# Altium footprint library vitech_ic.PcbLib: 8 footprints
Each footprint in its own frame and in the unit in brackets; x right, y up, seen from the top. Pads: shape width x height; smd on the part's side, far side on the other; paste and mask are expansions set on the pad; w line width, h text height; cw(c..) or ccw(c..) is an arc to the next point about the centre after c.
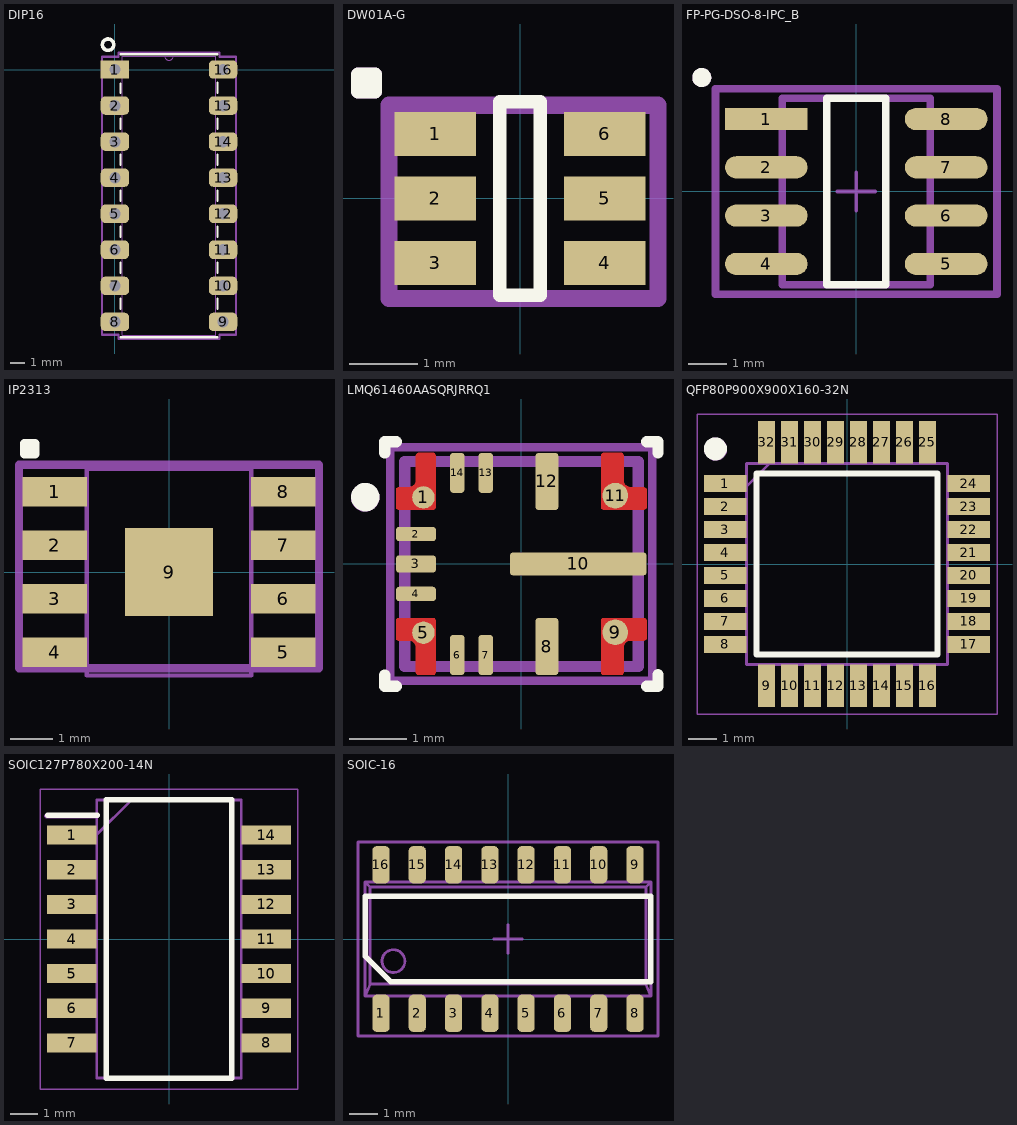
[diagram p0: the footprints below, top view; thin cyan lines are the x and y axes]

## DIP16 [mm]
pads (16):
  rect 2x1.295 / inner round 1.524 / far side rect 1.295x1.295 hole 0.787 paste-2539.97 mask+0: 1(0,0)
  rrect50% 2x1.295 / inner round 1.524 / far side round 1.295 hole 0.8 paste-2539.97 mask+0: 2(0,-2.54) 3(0,-5.08) 4(0,-7.62) 5(0,-10.16) 6(0,-12.7) 7(0,-15.24) 8(0,-17.78) 9(7.62,-17.78) 10(7.62,-15.24) 11(7.62,-12.7) 12(7.62,-10.16) 13(7.62,-7.62) 14(7.62,-5.08) 15(7.62,-2.54) 16(7.62,0)
Top Overlay:
  circle w0.254: c-0.483,1.753 r0.4
  lines w0.152: 0.381,-18.86 7.239,-18.86 ; 0.381,-16.877 0.381,-16.143 ; 0.381,-14.337 0.381,-13.603 ; 0.381,-11.797 0.381,-11.063 ; 0.381,-9.257 0.381,-8.523 ; 0.381,-6.717 0.381,-5.983 ; 0.381,-4.177 0.381,-3.443 ; 0.381,-1.637 0.381,-0.98 ; 0.381,1.079 7.239,1.079 ; 7.239,-16.877 7.239,-16.143 ; 7.239,-14.337 7.239,-13.603 ; 7.239,-11.797 7.239,-11.063 ; 7.239,-9.257 7.239,-8.523 ; 7.239,-6.717 7.239,-5.983 ; 7.239,-4.177 7.239,-3.443 ; 7.239,-1.637 7.239,-0.903
Assembly:
  lines w0.152: -0.902,-18.682 -0.902,0.902 0.254,0.902 0.254,1.206 7.366,1.206 7.366,0.902 8.522,0.902 8.522,-18.682 7.366,-18.682 7.366,-18.986 0.254,-18.986 0.254,-18.682 -0.902,-18.682
Top Assembly:
  text ".Designator" at 1.803,1.563 h0.5
Mechanical 13:
  lines w0: 3.505,0.953 ccw(c3.81,0.953) 4.115,0.953
  lines w0.025: -0.394,-18.174 0.508,-18.174 0.508,-17.386 -0.394,-17.386 -0.394,-18.174 ; -0.394,-15.634 0.508,-15.634 0.508,-14.846 -0.394,-14.846 -0.394,-15.634 ; -0.394,-13.094 0.508,-13.094 0.508,-12.306 -0.394,-12.306 -0.394,-13.094 ; -0.394,-10.554 0.508,-10.554 0.508,-9.766 -0.394,-9.766 -0.394,-10.554 ; -0.394,-8.014 0.508,-8.014 0.508,-7.226 -0.394,-7.226 -0.394,-8.014 ; -0.394,-5.474 0.508,-5.474 0.508,-4.686 -0.394,-4.686 -0.394,-5.474 ; -0.394,-2.934 0.508,-2.934 0.508,-2.146 -0.394,-2.146 -0.394,-2.934 ; -0.394,-0.394 0.508,-0.394 0.508,0.394 -0.394,0.394 -0.394,-0.394 ; 0.508,-18.732 0.508,0.953 7.112,0.953 7.112,-18.732 0.508,-18.732 ; 7.112,-18.174 8.014,-18.174 8.014,-17.386 7.112,-17.386 7.112,-18.174 ; 7.112,-15.634 8.014,-15.634 8.014,-14.846 7.112,-14.846 7.112,-15.634 ; 7.112,-13.094 8.014,-13.094 8.014,-12.306 7.112,-12.306 7.112,-13.094 ; 7.112,-10.554 8.014,-10.554 8.014,-9.766 7.112,-9.766 7.112,-10.554 ; 7.112,-8.014 8.014,-8.014 8.014,-7.226 7.112,-7.226 7.112,-8.014 ; 7.112,-5.474 8.014,-5.474 8.014,-4.686 7.112,-4.686 7.112,-5.474 ; 7.112,-2.934 8.014,-2.934 8.014,-2.146 7.112,-2.146 7.112,-2.934 ; 7.112,-0.394 8.014,-0.394 8.014,0.394 7.112,0.394 7.112,-0.394
Mechanical 19:
  text ".Comment" at 1.834,2.401 h0.5
3D body "N16_TEX.step": height 5.21, standoff -2.54, extent -0.127,-18.732 8.001,0.952

## DW01A-G [mm]
pads (6):
  rect 1.2x0.65 smd: 1(-1.25,0.95) 2(-1.25,0) 3(-1.25,-0.95) 4(1.25,-0.95) 5(1.25,0) 6(1.25,0.95)
Top Overlay:
  lines w0.2: -2.388,1.829 -2.134,1.575 ; -2.388,1.829 -2.134,1.829 -2.134,1.575 ; -2.388,1.829 -2.388,1.575 -2.134,1.575 ; -2.388,1.829 -2.134,1.575 ; -0.3,-1.425 0.3,-1.425 0.3,1.425 -0.3,1.425 -0.3,-1.425
Assembly:
  lines w0.2: -2.388,1.829 -2.134,1.575 ; -2.388,1.829 -2.134,1.829 -2.134,1.575 ; -2.388,1.829 -2.388,1.575 -2.134,1.575 ; -2.388,1.829 -2.134,1.575
  lines w0.254: -1.93,-1.473 2.032,-1.473 2.032,1.372 -1.93,1.372 -1.93,-1.473
Top Assembly:
  text ".Designator" at -1.601,2.934 h0.5
Mechanical 19:
  text ".Comment" at -1.57,3.772 h0.5
3D body "DW01A-G.stp": height 1.35, standoff 0, extent -1.4,-1.425 1.4,1.425

## FP-PG-DSO-8-IPC_B [mm]
pads (8):
  rect 2.174x0.583 smd paste+0 mask+0: 1(-2.366,1.905)
  rrect100% 2.174x0.583 smd paste+0 mask+0: 2(-2.366,0.635) 3(-2.366,-0.635) 4(-2.366,-1.905) 5(2.366,-1.905) 6(2.366,-0.635) 7(2.366,0.635) 8(2.366,1.905)
Top Overlay:
  circle w0.25: c-4.064,2.997 r0.125
  lines w0.2: -0.779,-2.45 -0.779,2.45 0.779,2.45 0.779,-2.45 -0.779,-2.45
Assembly:
  circle w0.25: c-4.064,2.997 r0.125
  lines w0.2: -3.703,-2.7 -3.703,2.7 3.703,2.7 3.703,-2.7 -3.703,-2.7 ; -1.95,-2.45 1.95,-2.45 1.95,2.45 -1.95,2.45 -1.95,-2.45
Top Assembly (Mech6):
  lines w0.2: -3.703,-2.7 -3.703,2.7 3.703,2.7 3.703,-2.7 -3.703,-2.7
Top Component Center:
  lines w0.1: -0.5,0 0.5,0 ; 0,-0.5 0,0.5
Mechanical 17:
  text ".Designator" at -1.943,3.987 h0.5
Mechanical 19:
  text ".Comment" at -1.937,3.301 h0.5
3D body "Trans_Infineon_Technologies_IRF9358PBF_eec.STEP": height 0.25, standoff 0, extent -3.703,-2.7 3.703,2.7

## IP2313 [mm] "ESOP-8L DC-DC Converters RoHS"
pads (9):
  rect 1.525x0.7 smd: 1(-2.712,1.905) 2(-2.712,0.635) 3(-2.712,-0.635) 4(-2.712,-1.905) 5(2.712,-1.905) 6(2.712,-0.635) 7(2.712,0.635) 8(2.712,1.905)
  rect 2.083x2.083 smd: 9(0,0)
Top Overlay:
  lines w0.2: -3.429,3.048 -3.175,2.794 ; -3.429,3.048 -3.175,3.048 -3.175,2.794 ; -3.429,3.048 -3.429,2.794 -3.175,2.794 ; -3.429,3.048 -3.175,2.794
Assembly:
  lines w0.2: -3.556,-2.286 3.556,-2.286 3.556,2.54 -3.556,2.54 -3.556,-2.286
Mechanical 15:
  lines w0.1: -1.95,-2.45 -1.95,2.45 1.95,2.45 1.95,-2.45 -1.95,-2.45
Mechanical 17:
  text ".Designator" at -1.366,3.338 h0.5
Mechanical 19:
  text ".Comment" at -1.366,2.688 h0.5
3D body "IP2312.stp": height 1.65, standoff 0, extent -3.127,-2.45 2.873,2.45

## LMQ61460AASQRJRRQ1 [mm]
pads (14):
  round 0.394 smd paste-1000 mask+0: 1(-1.719,1.169) 5(-1.719,-1.206)
  rrect40% 0.7x0.25 smd paste+0 mask+0: 2(-1.85,0.525) 4(-1.85,-0.525)
  rrect33% 0.7x0.3 smd paste+0 mask+0: 3(-1.85,0)
  rrect40% 0.25x0.7 smd paste+0 mask+0: 6(-1.125,-1.6) 7(-0.625,-1.6) 13(-0.625,1.6) 14(-1.125,1.6)
  rrect25% 0.4x1 smd paste+0 mask+0: 8(0.45,-1.45) 12(0.45,1.45)
  round 0.45 smd paste-1000 mask+0: 9(1.65,-1.2) 11(1.65,1.2)
  rrect25% 2.4x0.4 smd paste-1000 mask+0: 10(1,0)
Top Layer:
  region: -1.8,1.95 -1.55,1.95 -1.54,1.95 -1.522,1.942 -1.508,1.928 -1.5,1.91 -1.5,1.9 -1.5,1 -1.5,0.99 -1.508,0.972 -1.522,0.958 -1.54,0.95 -1.55,0.95 -2.15,0.95 -2.16,0.95 -2.178,0.958 -2.192,0.972 -2.2,0.99 -2.2,1 -2.2,1.3 -2.2,1.31 -2.192,1.328 -2.178,1.342 -2.16,1.35 -2.15,1.35 -1.97,1.35 -1.947,1.352 -1.903,1.37 -1.87,1.403 -1.852,1.447 -1.85,1.47 -1.85,1.9 -1.85,1.91 -1.842,1.928 -1.828,1.942 -1.81,1.95 -1.8,1.95
  region: -1.55,-1.95 -1.54,-1.95 -1.522,-1.942 -1.508,-1.928 -1.5,-1.91 -1.5,-1.9 -1.5,-1 -1.5,-0.99 -1.508,-0.972 -1.522,-0.958 -1.54,-0.95 -1.55,-0.95 -2.15,-0.95 -2.16,-0.95 -2.178,-0.958 -2.192,-0.972 -2.2,-0.99 -2.2,-1 -2.2,-1.3 -2.2,-1.31 -2.192,-1.328 -2.178,-1.342 -2.16,-1.35 -2.15,-1.35 -1.97,-1.35 -1.947,-1.352 -1.903,-1.37 -1.87,-1.403 -1.852,-1.447 -1.85,-1.47 -1.85,-1.9 -1.85,-1.91 -1.842,-1.928 -1.828,-1.942 -1.81,-1.95 -1.8,-1.95
  region: 1.45,1.95 1.75,1.95 1.76,1.95 1.778,1.942 1.792,1.928 1.8,1.91 1.8,1.9 1.8,1.47 1.802,1.447 1.82,1.403 1.853,1.37 1.897,1.352 1.92,1.35 2.15,1.35 2.16,1.35 2.178,1.342 2.192,1.328 2.2,1.31 2.2,1.3 2.2,1 2.2,0.99 2.192,0.972 2.178,0.958 2.16,0.95 2.15,0.95 1.45,0.95 1.44,0.95 1.422,0.958 1.408,0.972 1.4,0.99 1.4,1 1.4,1.9 1.4,1.91 1.408,1.928 1.422,1.942 1.44,1.95 1.45,1.95
  region: 1.45,-1.95 1.75,-1.95 1.76,-1.95 1.778,-1.942 1.792,-1.928 1.8,-1.91 1.8,-1.9 1.8,-1.47 1.802,-1.447 1.82,-1.403 1.853,-1.37 1.897,-1.352 1.92,-1.35 2.15,-1.35 2.16,-1.35 2.178,-1.342 2.192,-1.328 2.2,-1.31 2.2,-1.3 2.2,-1 2.2,-0.99 2.192,-0.972 2.178,-0.958 2.16,-0.95 2.15,-0.95 1.45,-0.95 1.44,-0.95 1.422,-0.958 1.408,-0.972 1.4,-0.99 1.4,-1 1.4,-1.9 1.4,-1.91 1.408,-1.928 1.422,-1.942 1.44,-1.95 1.45,-1.95
Top Overlay:
  circle w0.25: c-2.74,1.173 r0.125
  lines w0.2: -2.399,-1.95 -2.399,-2.15 -2.199,-2.15 ; -2.399,1.948 -2.399,2.148 -2.199,2.148 ; 2.2,-2.148 2.4,-2.148 2.4,-1.948 ; 2.199,2.149 2.399,2.149 2.399,1.949
Top Paste:
  drawing of 6 lines, arcs and shapes, not listed
Top 3D Body:
  lines w0.2: -2.05,-1.8 2.05,-1.8 2.05,1.8 -2.05,1.8 -2.05,-1.8
Assembly:
  circle w0.25: c-2.743,1.168 r0.125
  lines w0.15: -2.3,-2.05 2.3,-2.05 2.3,2.05 -2.3,2.05 -2.3,-2.05
Mechanical 17:
  text ".Designator" at -1.366,3.338 h0.5
Mechanical 19:
  text ".Comment" at -1.366,2.688 h0.5
3D body "IC_Texas_Instruments_LM61440AANRJRR_eec.STEP": height 0.25, standoff 0, extent -2.3,-2.05 2.3,2.05

## QFP80P900X900X160-32N [mm]
pads (32):
  rect 1.475x0.6 smd: 1(-4.238,2.8) 2(-4.238,2) 3(-4.238,1.2) 4(-4.238,0.4) 5(-4.238,-0.4) 6(-4.238,-1.2) 7(-4.238,-2) 8(-4.238,-2.8) 17(4.238,-2.8) 18(4.238,-2) 19(4.238,-1.2) 20(4.238,-0.4) 21(4.238,0.4) 22(4.238,1.2) 23(4.238,2) 24(4.238,2.8)
  rect 0.6x1.475 smd: 9(-2.8,-4.238) 10(-2,-4.238) 11(-1.2,-4.238) 12(-0.4,-4.238) 13(0.4,-4.238) 14(1.2,-4.238) 15(2,-4.238) 16(2.8,-4.238) 25(2.8,4.238) 26(2,4.238) 27(1.2,4.238) 28(0.4,4.238) 29(-0.4,4.238) 30(-1.2,4.238) 31(-2,4.238) 32(-2.8,4.238)
Top Overlay:
  circle w0.4: c-4.584,4.012 r0.2
  lines w0.2: -3.15,-3.15 3.15,-3.15 3.15,3.15 -3.15,3.15 -3.15,-3.15
Assembly:
  circle w0.4: c-4.575,4 r0.2
  circle w0.4: c-4.575,4 r0.2
  lines w0.05: -5.225,-5.225 5.225,-5.225 5.225,5.225 -5.225,5.225 -5.225,-5.225
Mechanical 13:
  lines w0.1: -3.5,2.7 -2.7,3.5 ; -3.5,-3.5 3.5,-3.5 3.5,3.5 -3.5,3.5 -3.5,-3.5
Mechanical 17:
  text ".Designator" at -1.366,6.338 h0.5
Mechanical 19:
  text ".Comment" at -1.366,5.688 h0.5
3D body "EG8010.stp": height 1.6, standoff 0, extent -4.5,-4.5 4.5,4.5

## SOIC127P780X200-14N [mm]
pads (14):
  rect 1.825x0.7 smd: 1(-3.562,3.81) 2(-3.562,2.54) 3(-3.562,1.27) 4(-3.562,0) 5(-3.562,-1.27) 6(-3.562,-2.54) 7(-3.562,-3.81) 8(3.562,-3.81) 9(3.562,-2.54) 10(3.562,-1.27) 11(3.562,0) 12(3.562,1.27) 13(3.562,2.54) 14(3.562,3.81)
Top Overlay:
  lines w0.2: -4.45,4.535 -2.625,4.535 ; -2.3,-5.1 -2.3,5.1 2.3,5.1 2.3,-5.1 -2.3,-5.1
Assembly:
  lines w0.05: -4.725,-5.5 4.725,-5.5 4.725,5.5 -4.725,5.5 -4.725,-5.5
  lines w0.2: -4.475,4.51 -2.65,4.51
Mechanical 13:
  lines w0.1: -2.65,3.83 -1.38,5.1 ; -2.65,-5.1 -2.65,5.1 2.65,5.1 2.65,-5.1 -2.65,-5.1
Mechanical 17:
  text ".Designator" at -2.366,6.338 h0.5
Mechanical 19:
  text ".Comment" at -2.366,5.688 h0.5
3D body "CD4081BNSRG4.stp": height 2, standoff 0, extent -3.9,-5.1 3.9,5.1

## SOIC-16 [mm]
height 1.75
pads (16):
  rrect50% 0.6x1.3 smd mask+0.05: 1(-4.445,-2.6) 2(-3.175,-2.6) 3(-1.905,-2.6) 4(-0.635,-2.6) 5(0.635,-2.6) 6(1.905,-2.6) 7(3.175,-2.6) 8(4.445,-2.6) 9(4.445,2.6) 10(3.175,2.6) 11(1.905,2.6) 12(0.635,2.6) 13(-0.635,2.6) 14(-1.905,2.6) 15(-3.175,2.6) 16(-4.445,2.6)
Top Overlay:
  lines w0.2: -5,-0.6 -5,1.5 5,1.5 5,-1.5 -4.1,-1.5 -5,-0.6
Assembly:
  circle w0.1: c-4.01,-0.775 r0.4
  lines w0.1: -4.67,-2.5 -4.22,-2.5 ; -4.67,-2 -4.67,-3 -4.22,-3 -4.22,-2 ; -4.67,2 -4.67,3 -4.22,3 -4.22,2 ; -4.67,2.5 -4.22,2.5 ; -3.4,-2.5 -2.95,-2.5 ; -3.4,-2 -3.4,-3 -2.95,-3 -2.95,-2 ; -3.4,2 -3.4,3 -2.95,3 -2.95,2 ; -3.4,2.5 -2.95,2.5 ; -2.13,-2.5 -1.68,-2.5 ; -2.13,-2 -2.13,-3 -1.68,-3 -1.68,-2 ; -2.13,2 -2.13,3 -1.68,3 -1.68,2 ; -2.13,2.5 -1.68,2.5 ; -0.86,-2.5 -0.41,-2.5 ; -0.86,-2 -0.86,-3 -0.41,-3 -0.41,-2 ; -0.86,2 -0.86,3 -0.41,3 -0.41,2 ; -0.86,2.5 -0.41,2.5 ; 0.41,-2.5 0.86,-2.5 ; 0.41,-2 0.41,-3 0.86,-3 0.86,-2 ; 0.41,2 0.41,3 0.86,3 0.86,2 ; 0.41,2.5 0.86,2.5 ; 1.68,-2.5 2.13,-2.5 ; 1.68,-2 1.68,-3 2.13,-3 2.13,-2 ; 1.68,2 1.68,3 2.13,3 2.13,2 ; 1.68,2.5 2.13,2.5 ; 2.95,-2.5 3.4,-2.5 ; 2.95,-2 2.95,-3 3.4,-3 3.4,-2 ; 2.95,2 2.95,3 3.4,3 3.4,2 ; 2.95,2.5 3.4,2.5 ; 4.22,-2.5 4.67,-2.5 ; 4.22,-2 4.22,-3 4.67,-3 4.67,-2 ; 4.22,2 4.22,3 4.67,3 4.67,2 ; 4.22,2.5 4.67,2.5 ; -5,-2 -5,2 ; -5,-2 5,-2 ; -5,-2 -4.825,-1.575 ; -5,2 5,2 ; -5,2 -4.825,1.825 ; -4.825,-1.575 4.825,-1.575 ; -4.825,-1.575 -4.825,1.825 ; -4.825,1.825 4.825,1.825 ; 4.825,-1.575 5,-2 ; 4.825,-1.575 4.825,1.825 ; 4.825,1.825 5,2 ; 5,-2 5,2
Mechanical 15:
  lines w0.1: -0.5,0 0.5,0 ; 0,-0.5 0,0.5 ; -5.25,-3.4 5.25,-3.4 5.25,3.4 -5.25,3.4 -5.25,-3.4
Mechanical 17:
  text ".Designator" at -1.905,4.513 h0.5
Mechanical 19:
  text ".Comment" at -1.914,3.84 h0.5
3D body "SOIC-16_127P600X175-16N.step": height 1.75, standoff 0, extent -5,-3 5,3